# EAGLE library part EXB-2HV330JV (library Resistor Array)
RES ARRAY 8 RES 33 OHM 1506 Manufacturer's datasheet <https://industrial.panasonic.com/cdbs/www-data/pdf/AOC0000/AOC0000C14.pdf>
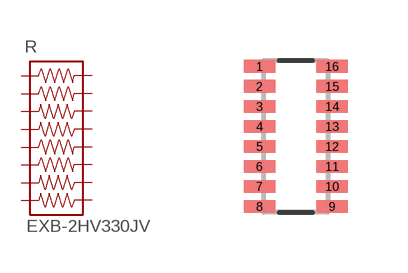
[diagram p8: symbol with the pads of EXB-2HV330JV; footprint EXB-2HV330JV]

Designator prefix R

## EXB-2HV330JV (CREATED_BY: PCBLayout.com; DIGIKEY_PARTNO: Y1330TR-ND; MANUFACTURER: Panasonic Electronic Components; MPN: EXB-2HV330JV; PACKAGE: 1506)  [EXB-2HV330JV]
1  1  pas
2  2  pas
3  3  pas
4  4  pas
5  5  pas
6  6  pas
7  7  pas
8  8  pas
9  9  pas
10  10  pas
11  11  pas
12  12  pas
13  13  pas
14  14  pas
15  15  pas
16  16  pas

## Footprint EXB-2HV330JV (pad centres in mm)
16-Chiparray 2-Side Convex, 0.50 mm pitch, 3.80 X 1.60 X 0.45 mm body 16-pin Chiparray 2-Side Convex package with 0.50 mm pitch with body size 3.80 X 1.60 X 0.45 mm
smd 0.792 x 0.322: 1 -0.91,1.75; 2 -0.91,1.25; 3 -0.91,0.75; 4 -0.91,0.25; 5 -0.91,-0.25; 6 -0.91,-0.75; 7 -0.91,-1.25; 8 -0.91,-1.75; 9 0.91,-1.75; 10 0.91,-1.25; 11 0.91,-0.75; 12 0.91,-0.25; 13 0.91,0.25; 14 0.91,0.75; 15 0.91,1.25; 16 0.91,1.75